# Altium schematic symbol library SCH - CONNECTOR - 4 PIN.SchLib: 1 symbol
Pins are listed as number, name and electrical type; pins without a type are passive.

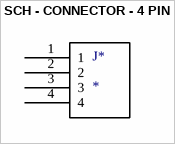
[diagram p0: symbol SCH - CONNECTOR - 4 PIN]

## SCH - CONNECTOR - 4 PIN
designator J*
pins: 1, 2, 3, 4